# Altium footprint library UCC28180-V04.PcbLib: 54 footprints (part 2 of 4)
Each footprint in its own frame and in the unit in brackets; x right, y up, seen from the top. Pads: shape width x height; smd on the part's side, far side on the other; paste and mask are expansions set on the pad; w line width, h text height; cw(c..) or ccw(c..) is an arc to the next point about the centre after c.
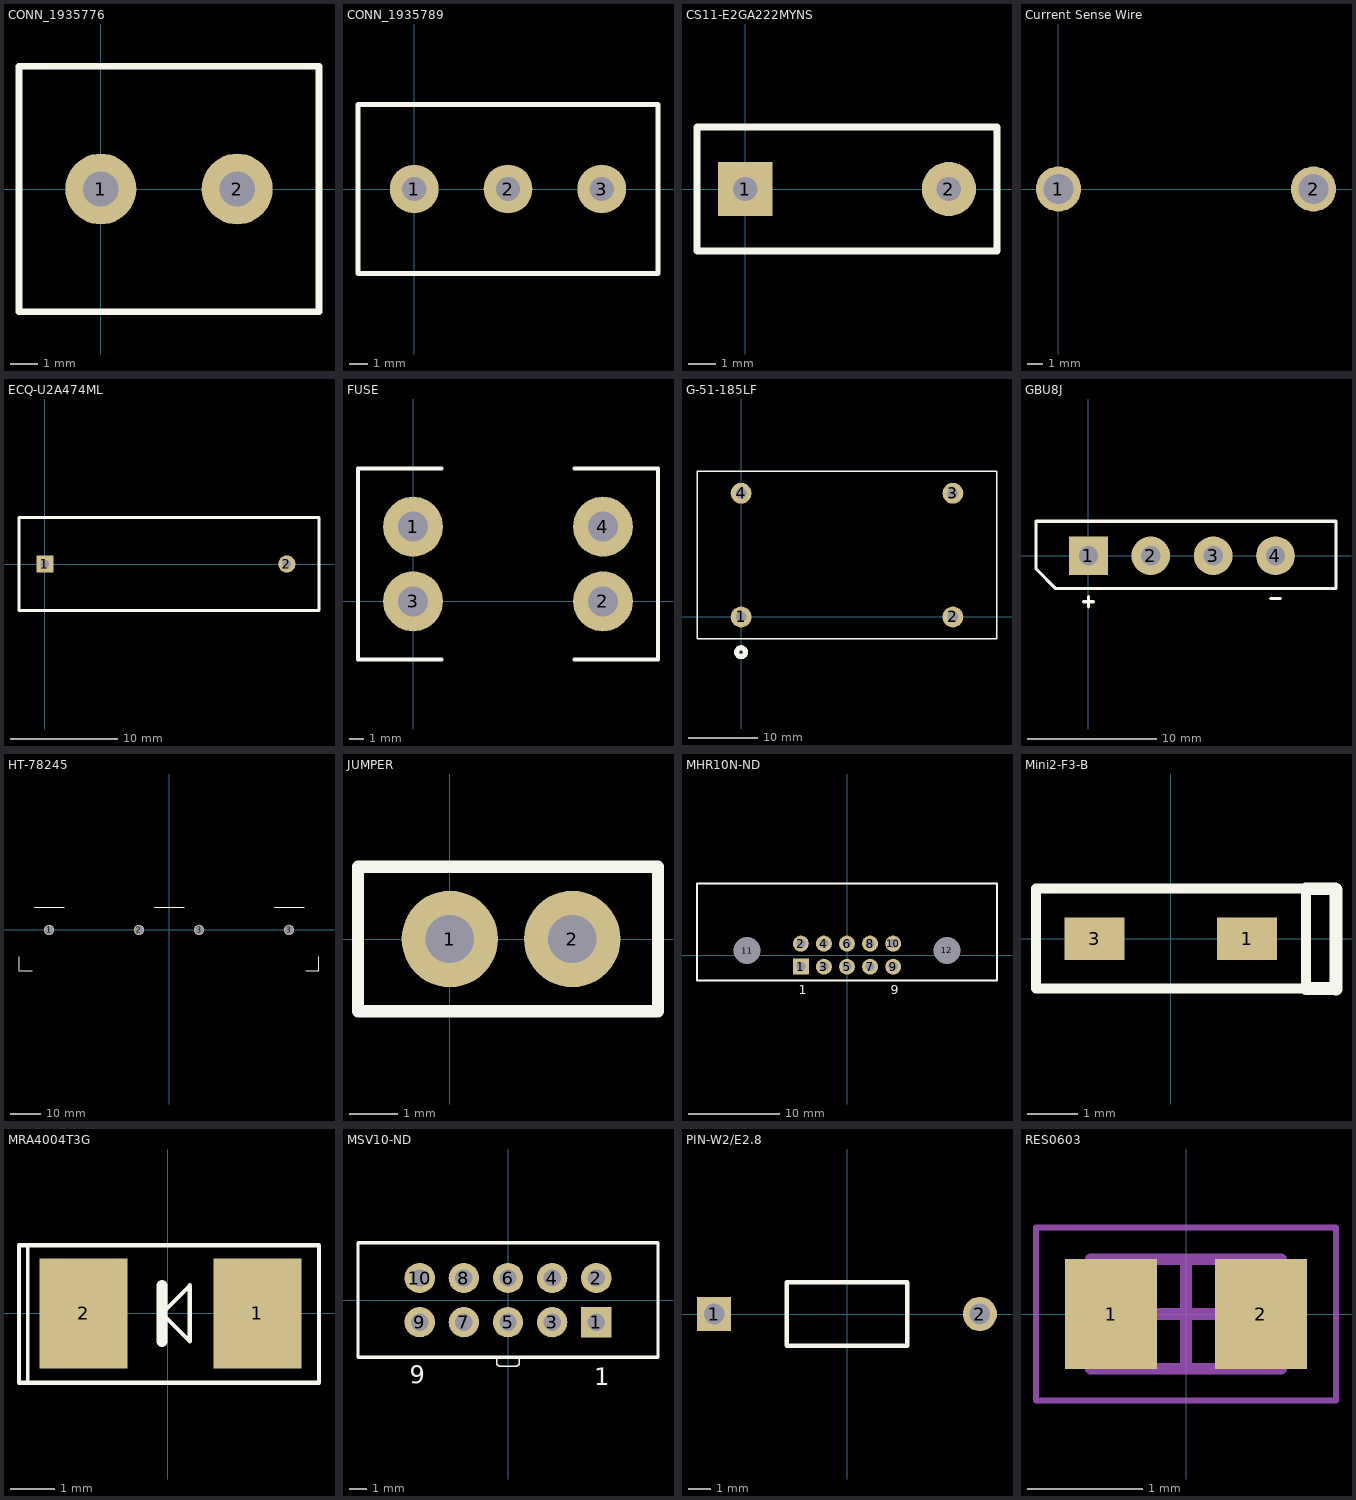
[diagram p1: the footprints below, top view; thin cyan lines are the x and y axes]

## CONN_1935776 [mm] "2 Pin Connector"
pads (2):
  round 2.6 hole 1.3: 1(0,0) 2(5,0)
Top Overlay:
  lines w0.254: -3,-4.5 8,-4.5 8,4.5 -3,4.5 -3,-4.5
3D body "2 pin connector, 5mm.stp": height 13.81, standoff -3.49, extent -3.2,-5.205 7.4,4.595

## CONN_1935789 [mm] "3 Pin Connector"
pads (3):
  round 2.6 hole 1.3: 1(0,0) 2(5,0) 3(10,0)
Top Overlay:
  lines w0.254: -3,-4.5 -3,4.5 13,4.5 13,-4.5 -3,-4.5

## CS11-E2GA222MYNS [mm] "Disc Cap"
pads (2):
  rect 2x2 hole 0.9: 1(0,0)
  round 2 hole 0.9: 2(7.5,0)
Top Overlay:
  lines w0.254: -1.778,-2.286 9.271,-2.286 9.271,2.286 -1.778,2.286 -1.778,-2.286

## Current Sense Wire [mm]
pads (2):
  round 3 hole 2: 1(0,0) 2(17,0)

## ECQ-U2A474ML [mm] "Film Capacitor"
pads (2):
  rect 1.6x1.6 hole 0.8: 1(0,0)
  round 1.6 hole 0.8: 2(22.5,0)
Top Overlay:
  lines w0.254: -2.413,-4.318 25.492,-4.318 25.492,4.318 -2.413,4.318 -2.413,-4.318

## FUSE [mm]
pads (4):
  round 4 hole 2: 1(0,5) 2(12.7,0) 3(0,0) 4(12.7,5)
Top Overlay:
  lines w0.254: 1.905,-3.89 -3.685,-3.89 -3.685,3.3 -3.685,8.89 1.905,8.89 ; 10.795,-3.89 16.385,-3.89 16.385,8.89 10.795,8.89

## G-51-185LF [mm] "Gowanda Inductor"
pads (4):
  round 3 hole 1.5: 1(0,0) 2(30.48,0) 3(30.48,17.8) 4(0,17.8)
Top Overlay:
  circle w0.75: c0,-5.08 r0.635
  lines w0.2: -6.35,-3.175 30.48,-3.175 36.83,-3.175 36.83,0 36.83,17.78 36.83,20.955 -6.35,20.955 -6.35,17.78 -6.35,0 -6.35,-3.175

## GBU8J [mm] "Bridge rectifier"
pads (4):
  rect 3x3 hole 1.5: 1(0,0)
  round 3 hole 1.5: 2(4.83,0) 3(9.66,0) 4(14.49,0)
Top Overlay:
  lines w0.254: -0.381,-3.556 0.381,-3.556 ; 0,-3.937 0,-3.175 ; 14.097,-3.302 14.859,-3.302 ; -4.064,-1.016 -2.54,-2.54 19.177,-2.54 19.177,2.667 13.303,2.667 2.318,2.667 -4.064,2.667 -4.064,-1.016

## HT-78245 [mm] "Aavid Thermalloy Heatsink"
pads (4):
  round 3.5 hole 3: 1(-40,0) 2(-10,0) 3(10,0) 3(40,0)
Top Overlay:
  lines w0.08: -50,-9 -50,-13.5 -45.5,-13.5 ; -45,7.5 -35,7.5 ; -5,7.5 5,7.5 ; 35,7.5 45,7.5
  lines w0.1: 45.5,-13.5 50,-13.5 50,-9

## JUMPER [mm] "JUMPER"
pads (2):
  round 2 hole 1: 1(0,0) 2(2.54,0)
Top Overlay:
  lines w0.254: -1.905,-1.5 -1.905,1.5 4.318,1.5 4.318,-1.5 -1.905,-1.5
3D body "Pitch-2.54mm.stp": height 3, standoff -3, extent -1.154,-1.175 3.846,1.175

## MHR10N-ND [mm] "CONN HEADER 10PS R/A LONG LATCH"
pads (13):
  rect 1.75x1.75 hole 1: 1(-5.082,-1.27)
  round 1.75 hole 1: 2(-5.082,1.27) 3(-2.542,-1.27) 3(-2.542,-1.27) 4(-2.542,1.27) 5(-0.002,-1.27) 6(-0.002,1.27) 7(2.538,-1.27) 8(2.538,1.27) 9(5.078,-1.27) 10(5.078,1.27)
  round 1.524 hole 2.96: 11(-10.988,0.508) 12(10.988,0.53)
Top Overlay:
  lines w0.2: -16.512,-2.794 -16.512,7.874 16.508,7.874 16.508,-2.794 -16.512,-2.794
  text "9" at 4.826,-4.318 h1
  text "1" at -5.334,-4.318 h1

## Mini2-F3-B [mm] "Schottky Diode"
pads (2):
  rect 1.2x0.85 smd: 1(1.525,0) 3(-1.525,0)
Top Overlay:
  lines w0.2: -2.7,-1 -2.7,0 -2.7,1 2.7,1 2.7,-1 -2.7,-1
  lines w0.254: 2.7,-1 3.286,-1 3.302,-1.016 3.302,0.984 3.286,1 2.7,1

## MRA4004T3G [mm] "Diode_SMA"
pads (2):
  rect 2x2.5 smd: 1(2.032,0) 2(-1.913,0)
Top Overlay:
  lines w0.08: -3.175,-1.575 -3.175,1.524
  lines w0.102: -3.378,-1.575 -3.378,1.55 3.429,1.55 3.429,0.769 3.429,-0.794 3.429,-1.575 -3.378,-1.575 ; -0.133,0 0.502,0.635 0.502,0 0.502,-0.635 -0.133,0
  lines w0.25: -0.133,-0.635 -0.133,0 -0.133,0.635
3D body "User Library-DO-214Aa SMA.step": height 2.4, standoff 0, extent -2.612,-1.3 2.587,1.3

## MSV10-ND [mm] "CONN SOCKET PCB VERT 10POS .1"
pads (10):
  rect 1.75x1.75 hole 1: 1(5.08,-1.27)
  round 1.75 hole 1: 2(5.08,1.27) 3(2.54,-1.27) 4(2.54,1.27) 5(0,-1.27) 6(0,1.27) 7(-2.54,-1.27) 8(-2.54,1.27) 9(-5.08,-1.27) 10(-5.08,1.27)
Top Overlay:
  lines w0.08: -0.635,-3.404 -0.635,-3.683 -0.508,-3.81 0.508,-3.81 0.635,-3.683 0.635,-3.302
  lines w0.2: -8.636,-3.302 -8.636,3.302 8.636,3.302 8.636,-3.302 -8.636,-3.302
  text "1" at 4.978,-4.902 h1
  text "9" at -5.664,-4.801 h1

## PIN-W2/E2.8 [mm] "Thru-Hole; 2 Leads"
pads (2):
  rect 1.5x1.5 hole 0.9: 1(-5.825,0)
  round 1.5 hole 0.9: 2(5.825,0)
Top Overlay:
  lines w0.2: -2.65,-1.4 2.65,-1.4 2.65,1.4 -2.65,1.4 -2.65,-1.4

## RES0603 [mm]
height 0.5
pads (2):
  rect 0.8x0.95 smd: 1(-0.65,0) 2(0.65,0)
Mechanical 13:
  lines w0.1: -0.825,-0.475 0.825,-0.475 0.825,0.475 -0.825,0.475 -0.825,-0.475
Mechanical 15:
  lines w0.05: -1.3,-0.75 1.3,-0.75 1.3,0.75 -1.3,0.75 -1.3,-0.75
  lines w0.1: -0.475,0 0.475,0 ; 0,-0.475 0,0.475
3D body: height 0.5, standoff 0, extent 0.525,-0.475 0.825,0.475
3D body: height 0.5, standoff 0, extent -0.825,-0.475 -0.525,0.475
3D body: height 0.5, standoff 0, extent -0.525,-0.475 0.525,0.475